# EAGLE library part AC101 (library X-Power)
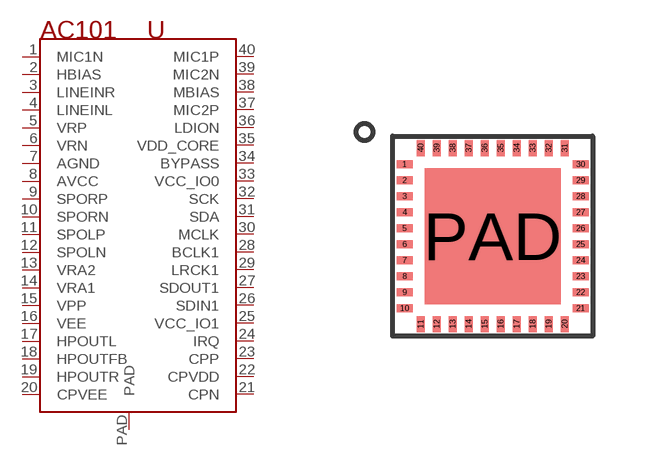
[diagram p1: symbol with the pads of QFN40-5X5; footprint QFN40-5X5]

Designator prefix -

## AC101  [QFN40-5X5]
1  MIC1N
2  HBIAS
3  LINEINR
4  LINEINL
5  VRP
6  VRN
7  AGND
8  AVCC
9  SPORP
10  SPORN
11  SPOLP
12  SPOLN
13  VRA2
14  VRA1
15  VPP
16  VEE
17  HPOUTL
18  HPOUTFB
19  HPOUTR
20  CPVEE
21  CPN
22  CPVDD
23  CPP
24  IRQ
25  VCC_IO1
26  SDIN1
27  SDOUT1
28  BCLK1
29  LRCK1
30  MCLK
31  SDA
32  SCK
33  VCC_IO0
34  BYPASS
35  VDD_CORE
36  LDION
37  MIC2P
38  MBIAS
39  MIC2N
40  MIC1P
PAD  PAD

## Footprint QFN40-5X5 (pad centres in mm)
smd 0.4 x 0.2: 1 -2.2,1.8; 2 -2.2,1.4; 3 -2.2,1; 4 -2.2,0.6; 5 -2.2,0.2; 6 -2.2,-0.2; 7 -2.2,-0.6; 8 -2.2,-1; 9 -2.2,-1.4; 10 -2.2,-1.8; 21 2.2,-1.8; 22 2.2,-1.4; 23 2.2,-1; 24 2.2,-0.6; 25 2.2,-0.2; 26 2.2,0.2; 27 2.2,0.6; 28 2.2,1; 29 2.2,1.4; 30 2.2,1.8
smd 0.2 x 0.4: 11 -1.8,-2.2; 12 -1.4,-2.2; 13 -1,-2.2; 14 -0.6,-2.2; 15 -0.2,-2.2; 16 0.2,-2.2; 17 0.6,-2.2; 18 1,-2.2; 19 1.4,-2.2; 20 1.8,-2.2; 31 1.8,2.2; 32 1.4,2.2; 33 1,2.2; 34 0.6,2.2; 35 0.2,2.2; 36 -0.2,2.2; 37 -0.6,2.2; 38 -1,2.2; 39 -1.4,2.2; 40 -1.8,2.2
smd 3.4 x 3.4: PAD 0,0